# EAGLE library part XC2C384_TQ144 (library xilinx_coolrunner2_rev1)
Coolrunner XC2C384 TQ144
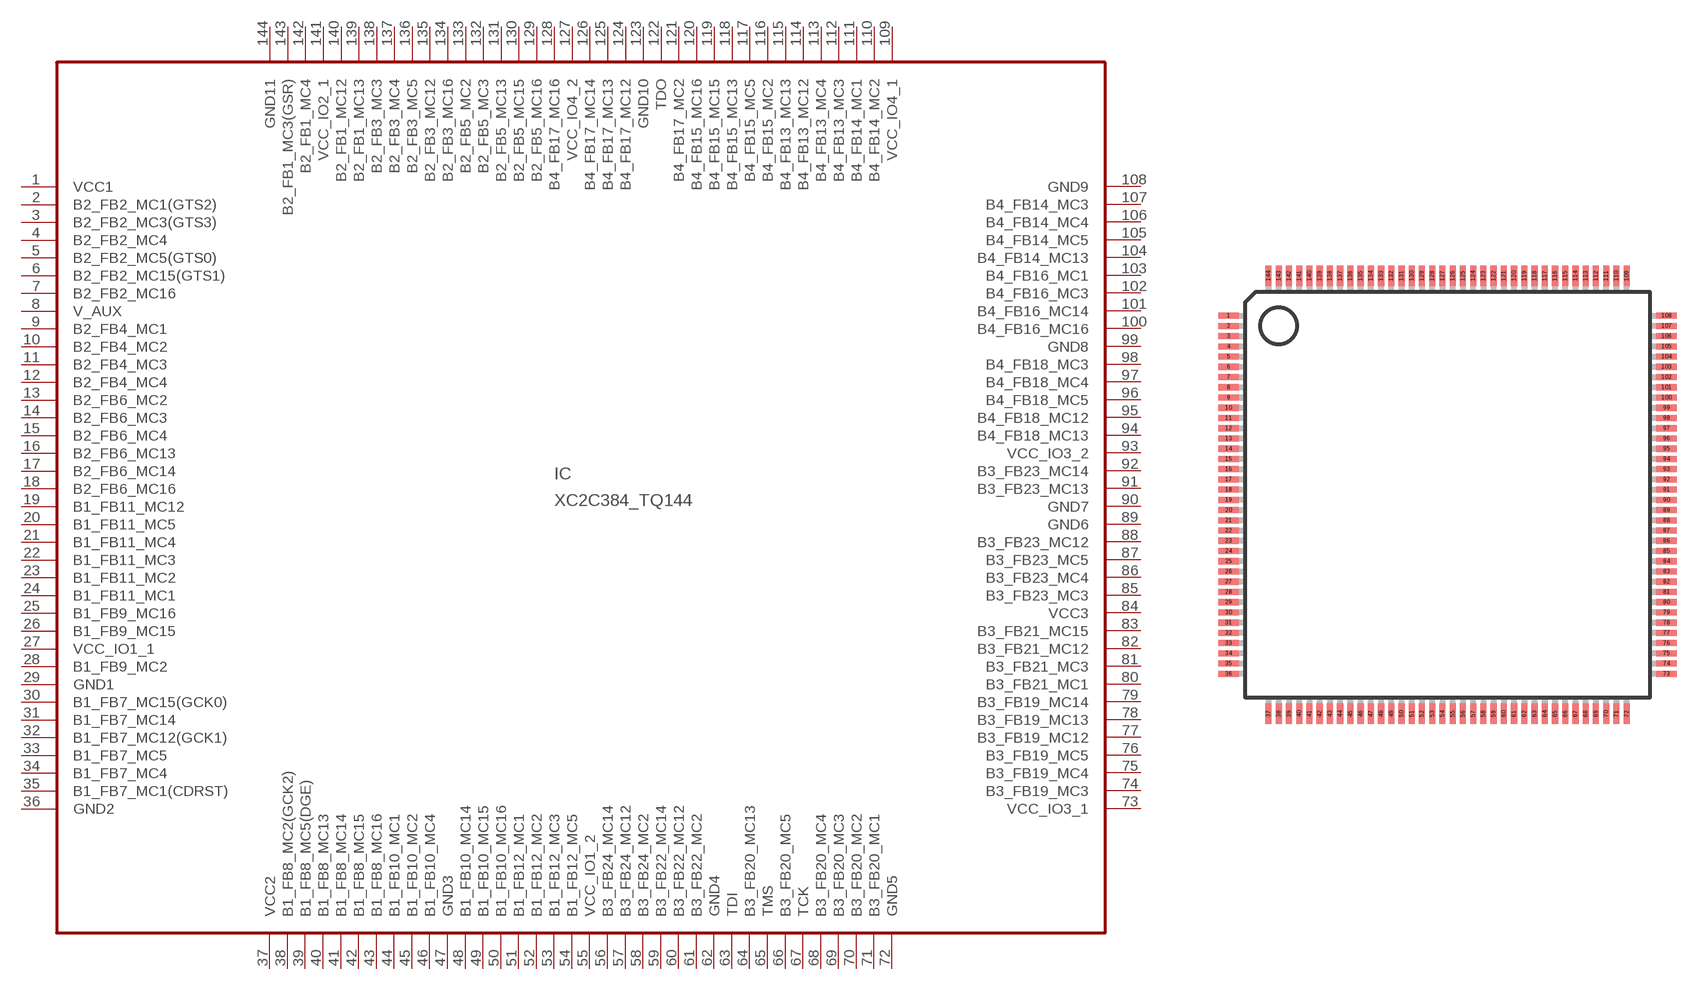
[diagram p1: symbol with the pads of TQ144; footprint TQ144]

Designator prefix IC

## XC2C384_TQ144  [TQ144]
1  VCC1  pwr
2  B2_FB2_MC1(GTS2)
3  B2_FB2_MC3(GTS3)
4  B2_FB2_MC4
5  B2_FB2_MC5(GTS0)
6  B2_FB2_MC15(GTS1)
7  B2_FB2_MC16
8  V_AUX  pwr
9  B2_FB4_MC1
10  B2_FB4_MC2
11  B2_FB4_MC3
12  B2_FB4_MC4
13  B2_FB6_MC2
14  B2_FB6_MC3
15  B2_FB6_MC4
16  B2_FB6_MC13
17  B2_FB6_MC14
18  B2_FB6_MC16
19  B1_FB11_MC12
20  B1_FB11_MC5
21  B1_FB11_MC4
22  B1_FB11_MC3
23  B1_FB11_MC2
24  B1_FB11_MC1
25  B1_FB9_MC16
26  B1_FB9_MC15
27  VCC_IO1_1  pwr
28  B1_FB9_MC2
29  GND1  pwr
30  B1_FB7_MC15(GCK0)
31  B1_FB7_MC14
32  B1_FB7_MC12(GCK1)
33  B1_FB7_MC5
34  B1_FB7_MC4
35  B1_FB7_MC1(CDRST)
36  GND2  pwr
37  VCC2  pwr
38  B1_FB8_MC2(GCK2)
39  B1_FB8_MC5(DGE)
40  B1_FB8_MC13
41  B1_FB8_MC14
42  B1_FB8_MC15
43  B1_FB8_MC16
44  B1_FB10_MC1
45  B1_FB10_MC2
46  B1_FB10_MC4
47  GND3  pwr
48  B1_FB10_MC14
49  B1_FB10_MC15
50  B1_FB10_MC16
51  B1_FB12_MC1
52  B1_FB12_MC2
53  B1_FB12_MC3
54  B1_FB12_MC5
55  VCC_IO1_2  pwr
56  B3_FB24_MC14
57  B3_FB24_MC12
58  B3_FB24_MC2
59  B3_FB22_MC14
60  B3_FB22_MC12
61  B3_FB22_MC2
62  GND4  pwr
63  TDI  in
64  B3_FB20_MC13
65  TMS  in
66  B3_FB20_MC5
67  TCK  in
68  B3_FB20_MC4
69  B3_FB20_MC3
70  B3_FB20_MC2
71  B3_FB20_MC1
72  GND5  pwr
73  VCC_IO3_1  pwr
74  B3_FB19_MC3
75  B3_FB19_MC4
76  B3_FB19_MC5
77  B3_FB19_MC12
78  B3_FB19_MC13
79  B3_FB19_MC14
80  B3_FB21_MC1
81  B3_FB21_MC3
82  B3_FB21_MC12
83  B3_FB21_MC15
84  VCC3  pwr
85  B3_FB23_MC3
86  B3_FB23_MC4
87  B3_FB23_MC5
88  B3_FB23_MC12
89  GND6  pwr
90  GND7  pwr
91  B3_FB23_MC13
92  B3_FB23_MC14
93  VCC_IO3_2  pwr
94  B4_FB18_MC13
95  B4_FB18_MC12
96  B4_FB18_MC5
97  B4_FB18_MC4
98  B4_FB18_MC3
99  GND8  pwr
100  B4_FB16_MC16
101  B4_FB16_MC14
102  B4_FB16_MC3
103  B4_FB16_MC1
104  B4_FB14_MC13
105  B4_FB14_MC5
106  B4_FB14_MC4
107  B4_FB14_MC3
108  GND9  pwr
109  VCC_IO4_1  pwr
110  B4_FB14_MC2
111  B4_FB14_MC1
112  B4_FB13_MC3
113  B4_FB13_MC4
114  B4_FB13_MC12
115  B4_FB13_MC13
116  B4_FB15_MC2
117  B4_FB15_MC5
118  B4_FB15_MC13
119  B4_FB15_MC15
120  B4_FB15_MC16
121  B4_FB17_MC2
122  TDO  out
123  GND10  pwr
124  B4_FB17_MC12
125  B4_FB17_MC13
126  B4_FB17_MC14
127  VCC_IO4_2  pwr
128  B4_FB17_MC16
129  B2_FB5_MC16
130  B2_FB5_MC15
131  B2_FB5_MC13
132  B2_FB5_MC3
133  B2_FB5_MC2
134  B2_FB3_MC16
135  B2_FB3_MC12
136  B2_FB3_MC5
137  B2_FB3_MC4
138  B2_FB3_MC3
139  B2_FB1_MC13
140  B2_FB1_MC12
141  VCC_IO2_1  pwr
142  B2_FB1_MC4
143  B2_FB1_MC3(GSR)
144  GND11  pwr

## Footprint TQ144 (pad centres in mm)
TQ144
smd 1 x 0.3: 1 -10.7,8.75; 2 -10.7,8.25; 3 -10.7,7.75; 4 -10.7,7.25; 5 -10.7,6.75; 6 -10.7,6.25; 7 -10.7,5.75; 8 -10.7,5.25; 9 -10.7,4.75; 10 -10.7,4.25; 11 -10.7,3.75; 12 -10.7,3.25; 13 -10.7,2.75; 14 -10.7,2.25; 15 -10.7,1.75; 16 -10.7,1.25; 17 -10.7,0.75; 18 -10.7,0.25; 19 -10.7,-0.25; 20 -10.7,-0.75; 21 -10.7,-1.25; 22 -10.7,-1.75; 23 -10.7,-2.25; 24 -10.7,-2.75; 25 -10.7,-3.25; 26 -10.7,-3.75; 27 -10.7,-4.25; 28 -10.7,-4.75; 29 -10.7,-5.25; 30 -10.7,-5.75; 31 -10.7,-6.25; 32 -10.7,-6.75; 33 -10.7,-7.25; 34 -10.7,-7.75; 35 -10.7,-8.25; 36 -10.7,-8.75; 73 10.7,-8.75; 74 10.7,-8.25; 75 10.7,-7.75; 76 10.7,-7.25; 77 10.7,-6.75; 78 10.7,-6.25; 79 10.7,-5.75; 80 10.7,-5.25; 81 10.7,-4.75; 82 10.7,-4.25; 83 10.7,-3.75; 84 10.7,-3.25; 85 10.7,-2.75; 86 10.7,-2.25; 87 10.7,-1.75; 88 10.7,-1.25; 89 10.7,-0.75; 90 10.7,-0.25; 91 10.7,0.25; 92 10.7,0.75; 93 10.7,1.25; 94 10.7,1.75; 95 10.7,2.25; 96 10.7,2.75; 97 10.7,3.25; 98 10.7,3.75; 99 10.7,4.25; 100 10.7,4.75; 101 10.7,5.25; 102 10.7,5.75; 103 10.7,6.25; 104 10.7,6.75; 105 10.7,7.25; 106 10.7,7.75; 107 10.7,8.25; 108 10.7,8.75
smd 0.3 x 1: 37 -8.75,-10.7; 38 -8.25,-10.7; 39 -7.75,-10.7; 40 -7.25,-10.7; 41 -6.75,-10.7; 42 -6.25,-10.7; 43 -5.75,-10.7; 44 -5.25,-10.7; 45 -4.75,-10.7; 46 -4.25,-10.7; 47 -3.75,-10.7; 48 -3.25,-10.7; 49 -2.75,-10.7; 50 -2.25,-10.7; 51 -1.75,-10.7; 52 -1.25,-10.7; 53 -0.75,-10.7; 54 -0.25,-10.7; 55 0.25,-10.7; 56 0.75,-10.7; 57 1.25,-10.7; 58 1.75,-10.7; 59 2.25,-10.7; 60 2.75,-10.7; 61 3.25,-10.7; 62 3.75,-10.7; 63 4.25,-10.7; 64 4.75,-10.7; 65 5.25,-10.7; 66 5.75,-10.7; 67 6.25,-10.7; 68 6.75,-10.7; 69 7.25,-10.7; 70 7.75,-10.7; 71 8.25,-10.7; 72 8.75,-10.7; 109 8.75,10.7; 110 8.25,10.7; 111 7.75,10.7; 112 7.25,10.7; 113 6.75,10.7; 114 6.25,10.7; 115 5.75,10.7; 116 5.25,10.7; 117 4.75,10.7; 118 4.25,10.7; 119 3.75,10.7; 120 3.25,10.7; 121 2.75,10.7; 122 2.25,10.7; 123 1.75,10.7; 124 1.25,10.7; 125 0.75,10.7; 126 0.25,10.7; 127 -0.25,10.7; 128 -0.75,10.7; 129 -1.25,10.7; 130 -1.75,10.7; 131 -2.25,10.7; 132 -2.75,10.7; 133 -3.25,10.7; 134 -3.75,10.7; 135 -4.25,10.7; 136 -4.75,10.7; 137 -5.25,10.7; 138 -5.75,10.7; 139 -6.25,10.7; 140 -6.75,10.7; 141 -7.25,10.7; 142 -7.75,10.7; 143 -8.25,10.7; 144 -8.75,10.7